# Altium footprint library B2B_XH_A.PcbLib: 1 footprints
Each footprint in its own frame and in the unit in brackets; x right, y up, seen from the top. Pads: shape width x height; smd on the part's side, far side on the other; paste and mask are expansions set on the pad; w line width, h text height; cw(c..) or ccw(c..) is an arc to the next point about the centre after c.
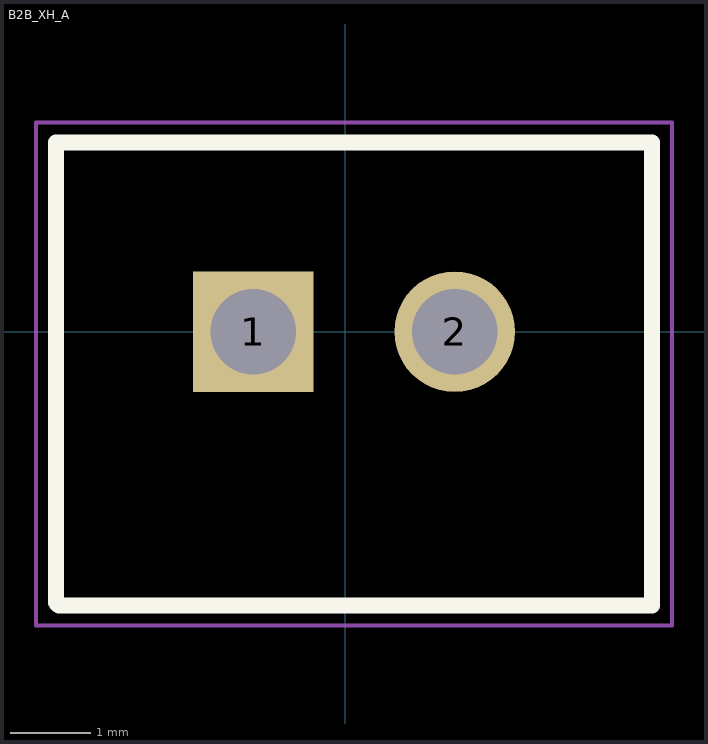
[diagram p0: the footprint, top view; thin cyan lines are the x and y axes]

## B2B_XH_A [mm]
pads (2):
  rect 1.5x1.5 hole 1.06: 1(-1.143,0)
  round 1.5 hole 1.06: 2(1.357,0)
Top Overlay:
  lines w0.2: -3.593,-3.363 -3.556,-3.4 3.807,-3.4 3.807,2.35 -3.593,2.35 -3.593,0 -3.593,-3.363
Mechanical 15:
  lines w0.1: -3.593,-3.4 3.807,-3.4 3.807,2.35 -3.593,2.35 -3.593,-3.4
Mechanical 20:
  lines w0.05: -3.843,-3.65 4.057,-3.65 4.057,2.6 -3.843,2.6 -3.843,-3.65
3D body "B2B-XH-A.step": height 7, standoff -3.4, extent -3.59,-3.383 3.81,2.367